# EAGLE library part CON_HEADER_2X03 (library dp_devices)
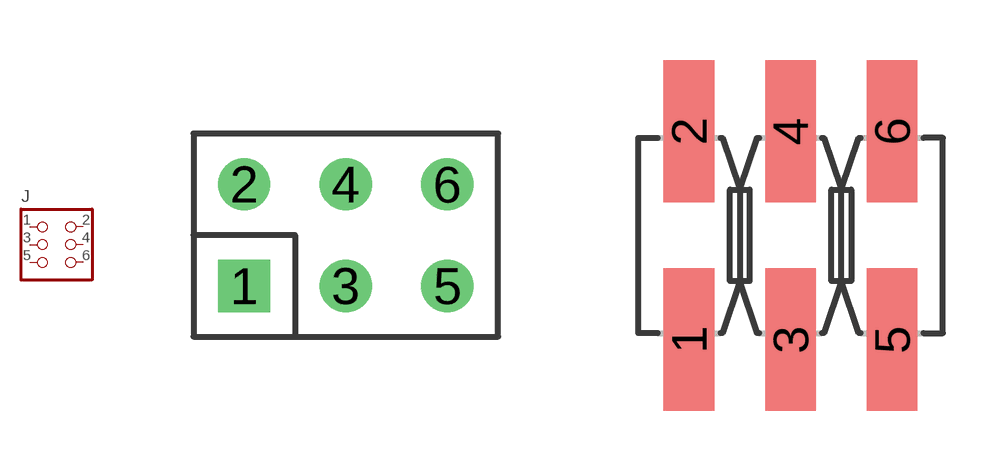
[diagram p10: symbol with the pads of M2X3; footprints M2X3, M2X3_SMD]

Designator prefix J

## CON_HEADER_2X03-PTH  [M2X3]
1  1  pas
2  2  pas
3  3  pas
4  4  pas
5  5  pas
6  6  pas

## CON_HEADER_2X03-SMD  [M2X3_SMD]
Pads as for M2X3

## Footprint M2X3 (pad centres in mm)
drill 0.8 square: 1 -2.54,-1.27
drill 0.8: 2 -2.54,1.27; 3 0,-1.27; 4 0,1.27; 5 2.54,-1.27; 6 2.54,1.27

## Footprint M2X3_SMD (pad centres in mm)
2x03 Straight male header SMD Mfr no:5-146134-2 5-146134-2 <http://www.digikey.com/product-search/en?x=0&y=0&lang=en&site=us&KeyWords=5-146134-2>
smd 1.27 x 3.56: 1 -2.54,-2.605; 2 -2.54,2.605; 3 0,-2.605; 4 0,2.605; 5 2.54,-2.605; 6 2.54,2.605